# Altium integrated library TC2030-CTX.IntLib: 1 symbol
Pins are listed as number, name and electrical type; pins without a type are passive.

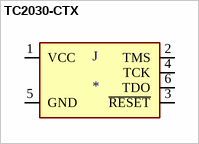
[diagram p0: symbol TC2030-CTX]

## TC2030-CTX
designator J
CortexÂ® Plug-Of-Nailsâ„¢ Adapter Cable; MP: TC2030-CTX; MF: Tag-Connect LLC; Availability: Unavailable; Package: None; SnapEDA_Link: https://www.snapeda.com/parts/TC2030-CTX/Tag-Connect%20LLC/view-part/225831/?ref=snap; Value: *; Price: None
footprint TC2030-IDC-NL
pins: 1 VCC (io), 2 TMS (io), 3 ~{RESET} (io), 4 TCK (io), 5 GND (io), 6 TDO (io)